# Altium schematic symbol library TPD3E001_SOT5.SchLib: 1 symbol
Pins are listed as number, name and electrical type; pins without a type are passive.

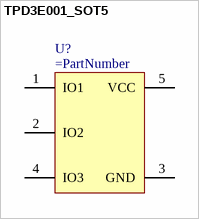
[diagram p0: symbol TPD3E001_SOT5]

## TPD3E001_SOT5
designator U?
pins: 1 IO1, 2 IO2, 3 GND, 4 IO3, 5 VCC